# Altium schematic symbol library TUSB2046B.SchLib: 1 symbol
Pins are listed as number, name and electrical type; pins without a type are passive.

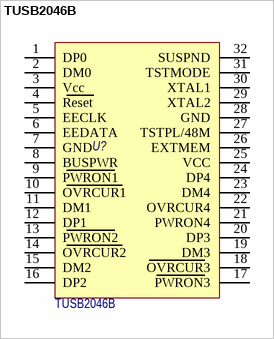
[diagram p0: symbol TUSB2046B]

## TUSB2046B
designator U?
TUSB2046x 4-Port USB-концентратор; Потребление, Вт: 0,165; Назначение: USB-концентратор; ComponentLink1Description: DataSheet; ComponentLink1URL: http://www.lit-phonon.ru/downloads/GK108-P.pdf; Наименование: TUSB2046B
footprint TUSB2046B
pins: 1 DP0 "Enable/~Disable", 2 DM0 "Enable/~Disable", 3 Vcc "Enable/~Disable", 4 Reset "Enable/~Disable", 5 EECLK "Enable/~Disable", 6 EEDATA "Enable/~Disable", 7 GND "Enable/~Disable", 8 BUSPWR "Enable/~Disable", 9 PWRON1 "Enable/~Disable", 10 OVRCUR1 "Enable/~Disable", 11 DM1 "Enable/~Disable", 12 DP1 "Enable/~Disable", 13 PWRON2 "Enable/~Disable", 14 OVRCUR2 "Enable/~Disable", 15 DM2 "Enable/~Disable", 16 DP2 "Enable/~Disable", 17 PWRON3 "Enable/~Disable", 18 OVRCUR3 "Enable/~Disable", 19 DM3 "Enable/~Disable", 20 DP3 "Enable/~Disable", 21 PWRON4 "Enable/~Disable", 22 OVRCUR4 "Enable/~Disable", 23 DM4 "Enable/~Disable", 24 DP4 "Enable/~Disable", 25 VCC "Enable/~Disable", 26 EXTMEM "Enable/~Disable", 27 TSTPL/48M "Enable/~Disable", 28 GND "Enable/~Disable", 29 XTAL2 "Enable/~Disable", 30 XTAL1 "Enable/~Disable", 31 TSTMODE "Enable/~Disable", 32 SUSPND "Enable/~Disable"